# EAGLE library part TS3DS26227 (library GTA04b7)
HIGH-BANDWIDTH DUAL SPDT DIFFERENTIAL SIGNAL SWITCH WITH INPUT LOGIC TRANSLATION
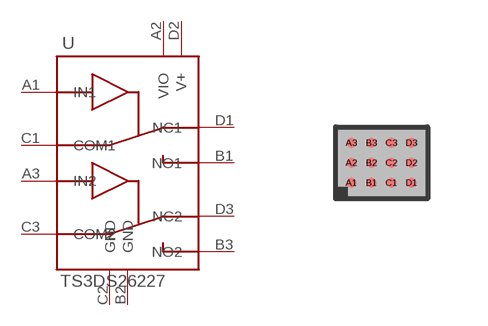
[diagram p51: symbol with the pads of R-XBGA-N12-0.5; footprint R-XBGA-N12-0.5]

Designator prefix -

## TS3DS26227YZT  [R-XBGA-N12-0.5]
A1  IN1  in
A2  VIO  pwr
A3  IN2  in
B1  NO1
B2  GND  pwr
B3  NO2
C1  COM1
C2  GND  pwr
C3  COM2
D1  NC1
D2  V+  pwr
D3  NC2

## Footprint R-XBGA-N12-0.5 (pad centres in mm)
TI YZG (0.5mm pitch)
smd 0.25 x 0.25: A1 -0.75,-0.5; A2 -0.75,0; A3 -0.75,0.5; B1 -0.25,-0.5; B2 -0.25,0; B3 -0.25,0.5; C1 0.25,-0.5; C2 0.25,0; C3 0.25,0.5; D1 0.75,-0.5; D2 0.75,0; D3 0.75,0.5